# EAGLE library part HSDL3602 (library newchips)
Agilent IrDA® Data 1.4 Compliant 4 Mb/s 3V Infrared Transceiver
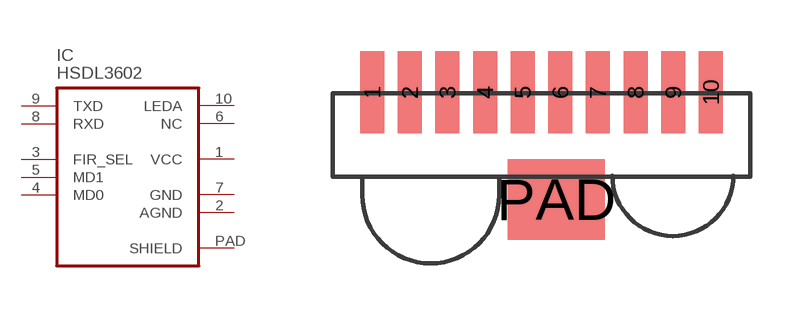
[diagram p25: symbol with the pads of HSDL3602; footprint HSDL3602]

Designator prefix IC

## HSDL3602  [HSDL3602]
1  VCC  pwr
2  AGND  pwr
3  FIR_SEL  in
4  MD0  in
5  MD1  in
6  NC  nc
7  GND  pwr
8  RXD  out
9  TXD  in
10  LEDA  pas
PAD  SHIELD  pas

## Footprint HSDL3602 (pad centres in mm)
smd 0.7 x 2.4: 1 0,0; 2 1.1,0; 3 2.2,0; 4 3.3,0; 5 4.4,0; 6 5.5,0; 7 6.6,0; 8 7.7,0; 9 8.8,0; 10 9.9,0
smd 2.84 x 2.35: PAD 5.38,-3.13